# Altium schematic symbol library MT6308.SchLib: 1 symbol
Pins are listed as number, name and electrical type; pins without a type are passive.

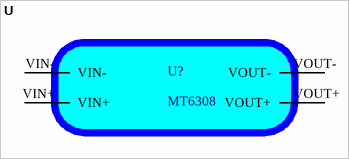
[diagram p0: symbol U]

## U
designator U?, comment MT6308
footprint PCBComponent_1
pins: VIN+, VIN-, VOUT+, VOUT-